# EAGLE library part LTC1730ES8-4.2#TRPBF (library LTC1730ES8)
None Check prices <https://pricing.snapeda.com/parts/LTC1730ES8-4.2%23TRPBF/Analog%20Devices/view-part?ref=eda>
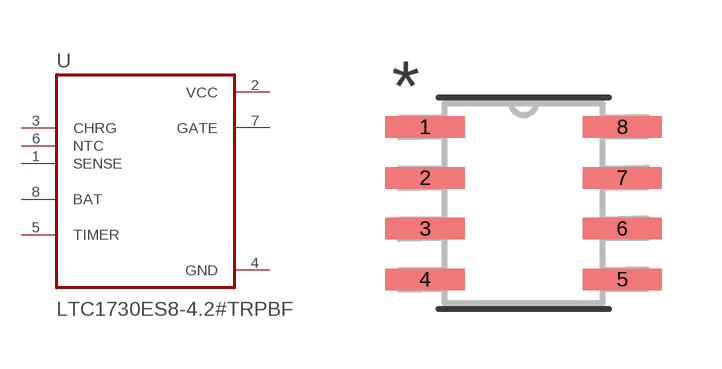
[diagram p0: symbol with the pads of SO-8_S; footprint SO-8_S]

Designator prefix U

## LTC1730ES8-4.2#TRPBF (Availability: Bad; Description: Pulse Battery Charger Li-Ion/Li-Pol 1000mA 4.2V 8-Pin SOIC N T/R; MF: Analog Devices; MP: LTC1730ES8-4.2#TRPBF; Package: SOIC -8 Analog Devices; Price: None)  [SO-8_S]
1  SENSE  in
2  VCC  pwr
3  CHRG  in
4  GND  pwr
5  TIMER
6  NTC  in
7  GATE  out
8  BAT

## Footprint SO-8_S (pad centres in mm)
smd 1.981 x 0.533: 1 -2.464,1.905; 2 -2.464,0.635; 3 -2.464,-0.635; 4 -2.464,-1.905; 5 2.464,-1.905; 6 2.464,-0.635; 7 2.464,0.635; 8 2.464,1.905